# EAGLE library part PROMINI_V1 (library sh4dov lib)
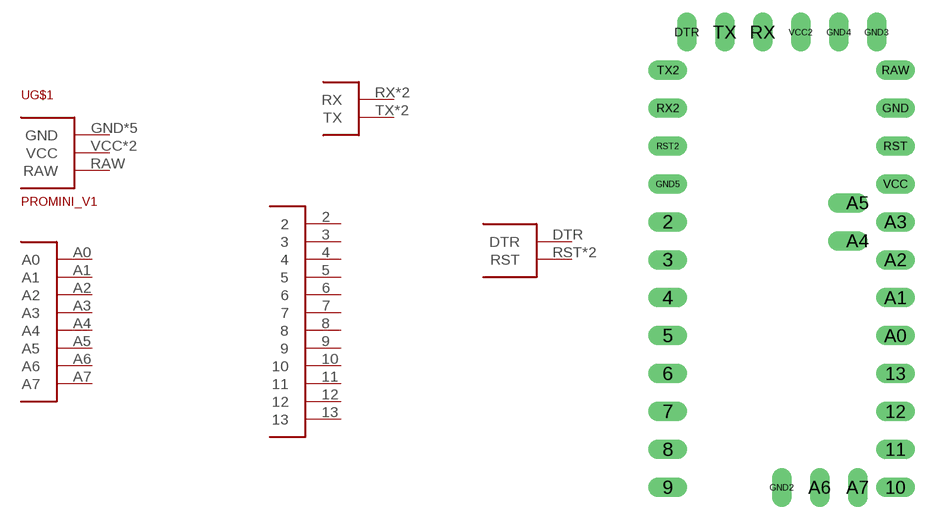
[diagram p1: symbol with the pads of PROMINI_V1; footprint PROMINI_V1]

Designator prefix -; gates G$1=PROMINI_POWER G$2=PROMINI_ANALOG G$3=PROMINI_COM G$4=PROMINI_DIGITAL G$5=PROMINI_RST

## PROMINI_V1  [PROMINI_V1]
2  G$4:2
3  G$4:3
4  G$4:4
5  G$4:5
6  G$4:6
7  G$4:7
8  G$4:8
9  G$4:9
10  G$4:10
11  G$4:11
12  G$4:12
13  G$4:13
A0  G$2:A0
A1  G$2:A1
A2  G$2:A2
A3  G$2:A3
A4  G$2:A4
A5  G$2:A5
A6  G$2:A6
A7  G$2:A7
DTR  G$5:DTR
GND  G$1:GND
GND2  G$1:GND
GND3  G$1:GND
GND4  G$1:GND
GND5  G$1:GND
RAW  G$1:RAW
RST  G$5:RST
RST2  G$5:RST
RX  G$3:RX
RX2  G$3:RX
TX  G$3:TX
TX2  G$3:TX
VCC  G$1:VCC
VCC2  G$1:VCC

## Footprint PROMINI_V1 (pad centres in mm)
drill 0.8 long: 2 -7.62,3.81; 3 -7.62,1.27; 4 -7.62,-1.27; 5 -7.62,-3.81; 6 -7.62,-6.35; 7 -7.62,-8.89; 8 -7.62,-11.43; 9 -7.62,-13.97; 10 7.62,-13.97; 11 7.62,-11.43; 12 7.62,-8.89; 13 7.62,-6.35; A0 7.62,-3.81; A1 7.62,-1.27; A2 7.62,1.27; A3 7.62,3.81; A6 2.54,-13.97; A7 5.08,-13.97; DTR -6.35,16.51; GND 7.62,11.43; GND2 0,-13.97; GND3 6.35,16.51; GND4 3.81,16.51; GND5 -7.62,6.35; RAW 7.62,13.97; RST 7.62,8.89; RST2 -7.62,8.89; RX -1.27,16.51; RX2 -7.62,11.43; TX -3.81,16.51; TX2 -7.62,13.97; VCC 7.62,6.35; VCC2 1.27,16.51
drill 0.8 offset: A4 5.08,2.54; A5 5.08,5.08